# EAGLE library part STM32G4_48 (library GaN_Fet_ESC_V0.2)
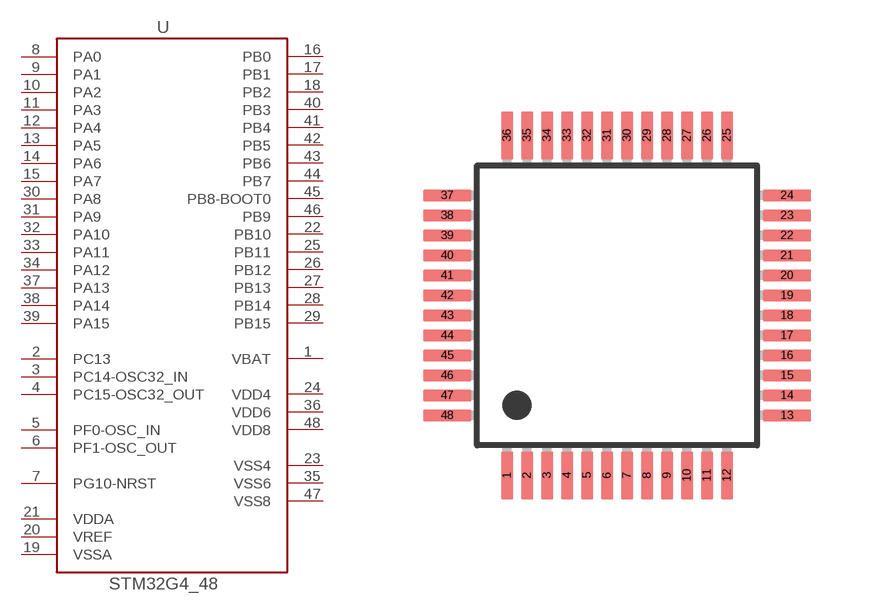
[diagram p8: symbol with the pads of LQFP-48; footprint LQFP-48]

Designator prefix U

## STM32G4_48  [LQFP-48]
1  VBAT
2  PC13
3  PC14-OSC32_IN
4  PC15-OSC32_OUT
5  PF0-OSC_IN
6  PF1-OSC_OUT
7  PG10-NRST
8  PA0
9  PA1
10  PA2
11  PA3
12  PA4
13  PA5
14  PA6
15  PA7
16  PB0
17  PB1
18  PB2
19  VSSA
20  VREF
21  VDDA
22  PB10
23  VSS4
24  VDD4
25  PB11
26  PB12
27  PB13
28  PB14
29  PB15
30  PA8
31  PA9
32  PA10
33  PA11
34  PA12
35  VSS6
36  VDD6
37  PA13
38  PA14
39  PA15
40  PB3
41  PB4
42  PB5
43  PB6
44  PB7
45  PB8-BOOT0
46  PB9
47  VSS8
48  VDD8

## Footprint LQFP-48 (pad centres in mm)
smd 0.3 x 1.2: 1 -2.75,-4.25; 2 -2.25,-4.25; 3 -1.75,-4.25; 4 -1.25,-4.25; 5 -0.75,-4.25; 6 -0.25,-4.25; 7 0.25,-4.25; 8 0.75,-4.25; 9 1.25,-4.25; 10 1.75,-4.25; 11 2.25,-4.25; 12 2.75,-4.25; 25 2.75,4.25; 26 2.25,4.25; 27 1.75,4.25; 28 1.25,4.25; 29 0.75,4.25; 30 0.25,4.25; 31 -0.25,4.25; 32 -0.75,4.25; 33 -1.25,4.25; 34 -1.75,4.25; 35 -2.25,4.25; 36 -2.75,4.25
smd 1.2 x 0.3: 13 4.25,-2.75; 14 4.25,-2.25; 15 4.25,-1.75; 16 4.25,-1.25; 17 4.25,-0.75; 18 4.25,-0.25; 19 4.25,0.25; 20 4.25,0.75; 21 4.25,1.25; 22 4.25,1.75; 23 4.25,2.25; 24 4.25,2.75; 37 -4.25,2.75; 38 -4.25,2.25; 39 -4.25,1.75; 40 -4.25,1.25; 41 -4.25,0.75; 42 -4.25,0.25; 43 -4.25,-0.25; 44 -4.25,-0.75; 45 -4.25,-1.25; 46 -4.25,-1.75; 47 -4.25,-2.25; 48 -4.25,-2.75